# Altium footprint library PCB - Leaded - SOD-123.PCBLIB: 2 footprints
Each footprint in its own frame and in the unit in brackets; x right, y up, seen from the top. Pads: shape width x height; smd on the part's side, far side on the other; paste and mask are expansions set on the pad; w line width, h text height; cw(c..) or ccw(c..) is an arc to the next point about the centre after c.
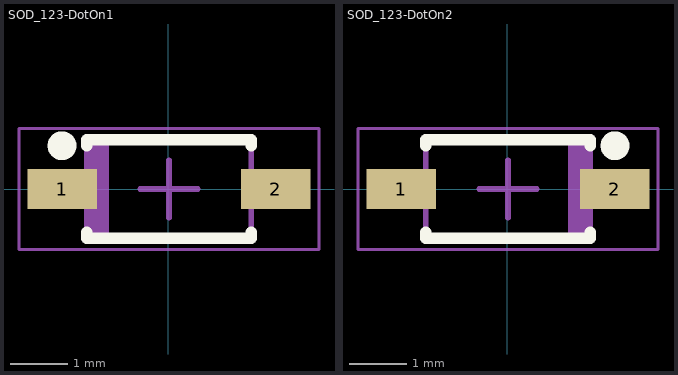
[diagram p0: the footprints below, top view; thin cyan lines are the x and y axes]

## SOD_123-DotOn1 [mm]
pads (2):
  rect 1.2x0.7 smd: 1(-1.84,0.008) 2(1.86,0.008)
Top Overlay:
  circle w0.25: c-1.844,0.758 r0.125
  lines w0.2: -1.415,-0.742 -1.415,-0.842 1.435,-0.842 1.435,-0.742 ; -1.415,0.758 -1.415,0.858 1.435,0.858 1.435,0.758
Top Assembly:
  region: -1.032,0.858 -1.415,0.858 -1.415,-0.842 -1.032,-0.842
  lines w0.1: -1.415,-0.842 1.435,-0.842 1.435,0.858 -1.415,0.858 -1.415,-0.842
Top Courtyard:
  lines w0.05: -2.59,-1.042 2.61,-1.042 2.61,1.058 -2.59,1.058 -2.59,-1.042
Top Component Center:
  lines w0.1: -0.49,0.008 0.51,0.008 ; 0.01,-0.492 0.01,0.508
3D body "SOD-123_J.stp": height 1.22, standoff -0.04, extent -1.844,-0.767 1.864,0.783

## SOD_123-DotOn2 [mm]
pads (2):
  rect 1.2x0.7 smd: 1(-1.84,0.008) 2(1.86,0.008)
Top Overlay:
  circle w0.25: c1.864,0.758 r0.125
  lines w0.2: -1.415,-0.742 -1.415,-0.842 1.435,-0.842 1.435,-0.742 ; -1.415,0.758 -1.415,0.858 1.435,0.858 1.435,0.758
Top Assembly:
  rectangle: 1.052,-0.842 1.435,0.858
  lines w0.1: -1.415,-0.842 1.435,-0.842 1.435,0.858 -1.415,0.858 -1.415,-0.842
Top Courtyard:
  lines w0.05: -2.59,-1.042 2.61,-1.042 2.61,1.058 -2.59,1.058 -2.59,-1.042
Top Component Center:
  lines w0.1: -0.49,0.008 0.51,0.008 ; 0.01,-0.492 0.01,0.508
3D body "SOD-123_J.stp": height 1.22, standoff -0.04, extent -1.844,-0.767 1.864,0.783